# EAGLE library part SCL3300-D01 (library edc_modules)
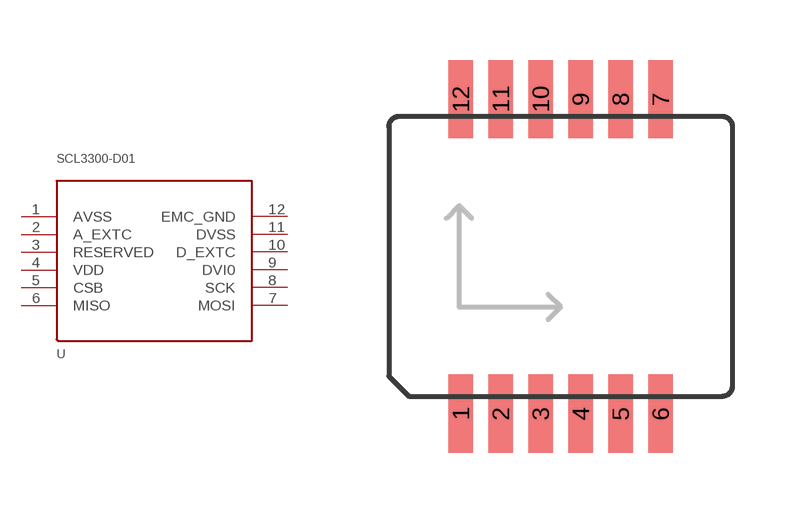
[diagram p3: symbol with the pads of SCL3300-D01; footprint SCL3300-D01]

Designator prefix -

## SCL3300-D01  [SCL3300-D01]
1  AVSS
2  A_EXTC
3  RESERVED
4  VDD
5  CSB
6  MISO
7  MOSI
8  SCK
9  DVI0
10  D_EXTC
11  DVSS
12  EMC_GND

## Footprint SCL3300-D01 (pad centres in mm)
smd 0.61 x 1.96: 1 -2.5,-3.935; 2 -1.5,-3.935; 3 -0.5,-3.935; 4 0.5,-3.935; 5 1.5,-3.935; 6 2.5,-3.935; 7 2.5,3.935; 8 1.5,3.935; 9 0.5,3.935; 10 -0.5,3.935; 11 -1.5,3.935; 12 -2.5,3.935